# Altium footprint library UAVX_Connector.PcbLib: 1 footprints
Each footprint in its own frame and in the unit in brackets; x right, y up, seen from the top. Pads: shape width x height; smd on the part's side, far side on the other; paste and mask are expansions set on the pad; w line width, h text height; cw(c..) or ccw(c..) is an arc to the next point about the centre after c.
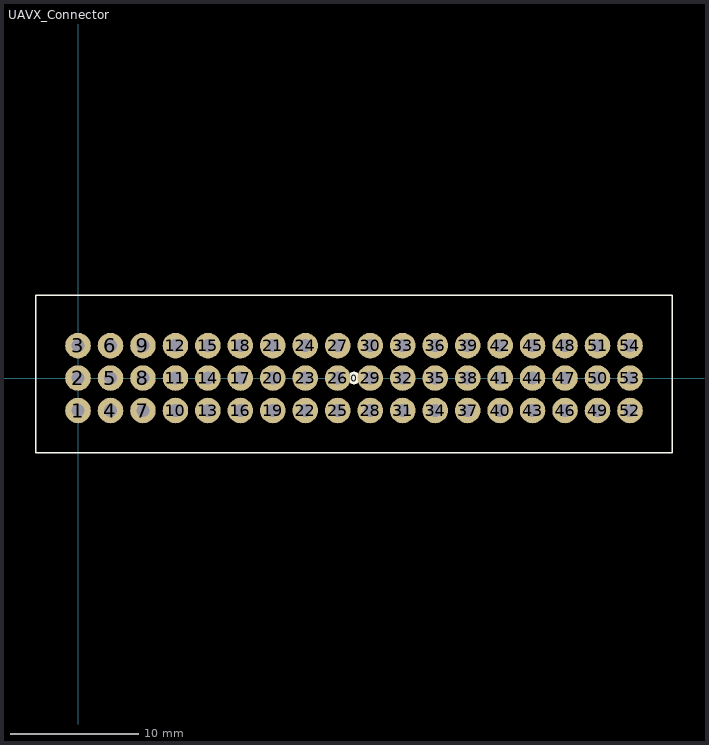
[diagram p0: the footprint, top view; thin cyan lines are the x and y axes]

## UAVX_Connector [mm]
pads (55):
  round 1 on Top Overlay: 0(21.59,0)
  round 2 / inner round 1.5 / far side round 2 hole 1: 1(0,-2.54) 2(0,0) 3(0,2.54) 4(2.54,-2.54) 5(2.54,0) 6(2.54,2.54) 7(5.08,-2.54) 8(5.08,0) 9(5.08,2.54) 10(7.62,-2.54) 11(7.62,0) 12(7.62,2.54) 13(10.16,-2.54) 14(10.16,0) 15(10.16,2.54) 16(12.7,-2.54) 17(12.7,0) 18(12.7,2.54) 19(15.24,-2.54) 20(15.24,0) 21(15.24,2.54) 22(17.78,-2.54) 23(17.78,0) 24(17.78,2.54) 25(20.32,-2.54) 26(20.32,0) 27(20.32,2.54) 28(22.86,-2.54) 29(22.86,0) 30(22.86,2.54) 31(25.4,-2.54) 32(25.4,0) 33(25.4,2.54) 34(27.94,-2.54) 35(27.94,0) 36(27.94,2.54) 37(30.48,-2.54) 38(30.48,0) 39(30.48,2.54) 40(33.02,-2.54) 41(33.02,0) 42(33.02,2.54) 43(35.56,-2.54) 44(35.56,0) 45(35.56,2.54) 46(38.1,-2.54) 47(38.1,0) 48(38.1,2.54) 49(40.64,-2.54) 50(40.64,0) 51(40.64,2.54) 52(43.18,-2.54) 53(43.18,0) 54(43.18,2.54)
Top Overlay:
  lines w0.1: -3.302,-5.842 46.482,-5.842 46.482,6.477 -3.302,6.477 -3.302,-5.842
3D body: height 10, standoff -2.54, extent -3.27,-5.8 46.45,6.499